# Altium footprint library M2011SS1W01_SPST_Switch.PcbLib: 1 footprints
Each footprint in its own frame and in the unit in brackets; x right, y up, seen from the top. Pads: shape width x height; smd on the part's side, far side on the other; paste and mask are expansions set on the pad; w line width, h text height; cw(c..) or ccw(c..) is an arc to the next point about the centre after c.
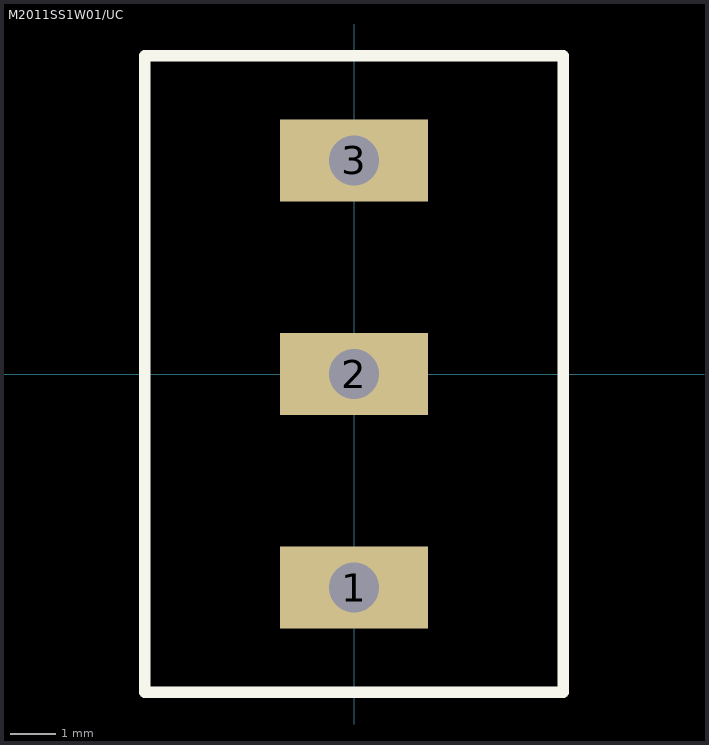
[diagram p0: the footprint, top view; thin cyan lines are the x and y axes]

## M2011SS1W01/UC [mm]
pads (3):
  rect 3.25x1.8 hole 1.1 square: 1(0,-4.7) 2(0,0) 3(0,4.7)
Top Layer keep-out:
  lines w0.254: -4.5,-7 -4.5,-7
Top Overlay:
  lines w0.254: -4.6,-7 4.6,-7 4.6,-0.15 4.6,7 -4.6,7 -4.6,-7